# Altium schematic symbol library Components - 24.04.20 - 04.20.SchLib: 1 symbol
Pins are listed as number, name and electrical type; pins without a type are passive.

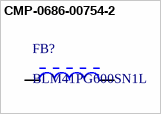
[diagram p0: symbol CMP-0686-00754-2]

## CMP-0686-00754-2
designator FB?, comment BLM41PG600SN1L
Chip Ferrite Bead for Power Lines, 60 Ohm, 6000 mA, -55 to 125 degC, 4.5 x 1.6 x 1.8 mm SMD, Tape and Reel; Manufacturer: Murata; Rated Current: 6000 mA; Impedance (at 100 MHz): 60 Ohm Typ.; DC Resistance: 0.009 Ohm Max.; Packing: Tape and Reel; Mounting Technology: Surface Mount; ComponentLink3URL: http://www.murata.com/products/catalog/pdf/c31e.pdf; ComponentLink3Description: Package Specification; ComponentLink1URL: http://www.murata.com/; PackageDescription: 2-Pin Chip, Body 4.5 x 1.6 mm; ComponentLink1Description: Manufacturer URL; ComponentLink2URL: http://www.murata.com/products/catalog/pdf/c31e.pdf; PartNumber: BLM41PG600SN1L; ComponentLink2Description: Datasheet; PackageReference: BLM41-2; Operating Temperature Range: -55 to 125 degC; DatasheetVersion: 08/2013
footprint MURA-BLM41-B60-CHIP-2_V2 (Chip Ferrite Bead, 2-Leads, Body 4.5x1.6mm, Height 1.8mm, 35um Land Pad Thickness, 6A Rated Current)
footprint MURA-BLM41-B60-CHIP-2_V3 (Chip Ferrite Bead, 2-Leads, Body 4.5x1.6mm, Height 1.8mm, 70um Land Pad Thickness, 6A Rated Current)
footprint MURA-BLM41-B60-CHIP-2_V1 (Chip Ferrite Bead, 2-Leads, Body 4.5x1.6mm, Height 1.8mm, 18um Land Pad Thickness, 6A Rated Current)
pins: 1, 2